# Altium schematic symbol library Schlib1.SchLib: 1 symbol
Pins are listed as number, name and electrical type; pins without a type are passive.

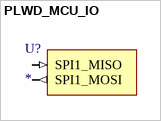
[diagram p0: symbol PLWD_MCU_IO]

## PLWD_MCU_IO
designator U?
pins: SPI1_MISO (in), SPI1_MOSI (out)